# EAGLE library part MODULE_GENERIC (library signpost)
Module header and PCB guildes for signposts
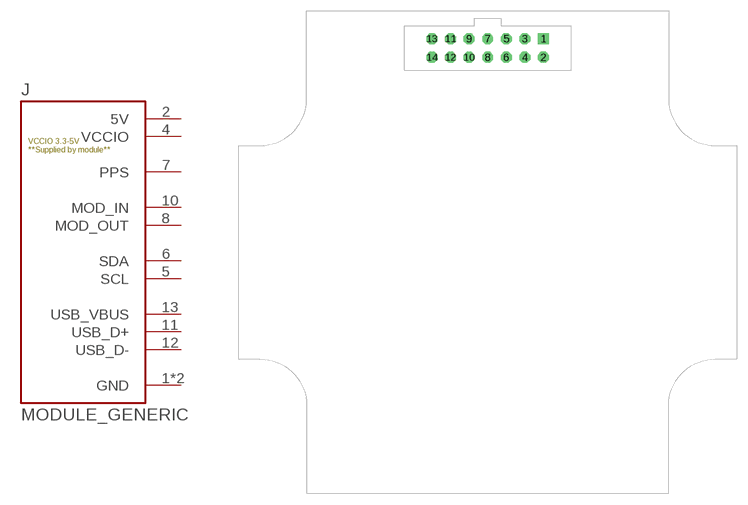
[diagram p18: symbol with the pads of MODULE_GENERIC; footprint MODULE_GENERIC]

Designator prefix J

## MODULE_GENERIC (DIGIKEY: S9170-ND)  [MODULE_GENERIC]
1  GND
2  5V
4  VCCIO
5  SCL
6  SDA
7  PPS
8  MOD_OUT
10  MOD_IN
11  USB_D+
12  USB_D-
13  USB_VBUS
14  GND

## Footprint MODULE_GENERIC (pad centres in mm)
drill 0.991 square: 1 7.62,29.21
drill 0.991 octagon: 2 7.62,26.67; 3 5.08,29.21; 4 5.08,26.67; 5 2.54,29.21; 6 2.54,26.67; 7 0,29.21; 8 0,26.67; 9 -2.54,29.21; 10 -2.54,26.67; 11 -5.08,29.21; 12 -5.08,26.67; 13 -7.62,29.21; 14 -7.62,26.67